# EAGLE library part SONAR_XL_EZ (library custom-connectors)
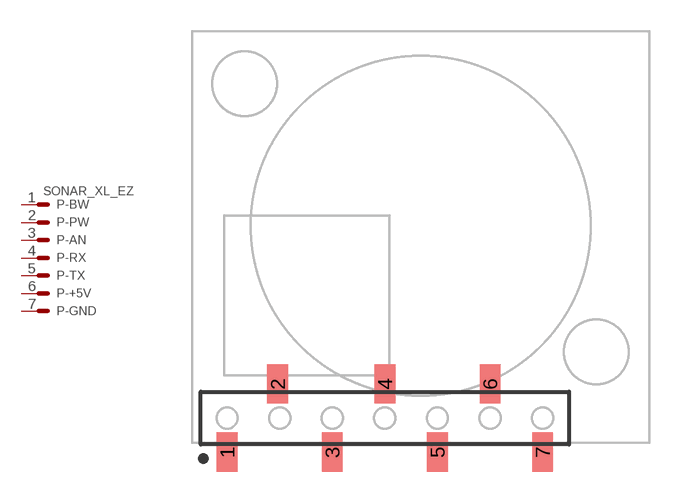
[diagram p18: symbol with the pads of 1X07_SMD_SONAR_XL_EZ; footprint 1X07_SMD_SONAR_XL_EZ]

Designator prefix P; gates -BW=MV -PW=M -AN=M -RX=M -TX=M -+5V=M -GND=M

## SONAR_XL_EZ (DIGI-KEY: SAM1148-07-ND)  [1X07_SMD_SONAR_XL_EZ]
1  -BW:S  pas
2  -PW:S  pas
3  -AN:S  pas
4  -RX:S  pas
5  -TX:S  pas
6  -+5V:S  pas
7  -GND:S  pas

## Footprint 1X07_SMD_SONAR_XL_EZ (pad centres in mm)
smd 1 x 1.9: 1 -9.35,-10.95; 2 -6.91,-7.65; 3 -4.27,-10.95; 4 -1.73,-7.65; 5 0.81,-10.95; 6 3.35,-7.65; 7 5.89,-10.95